# Altium schematic symbol library Schlib_EFM1.SchLib: 109 symbols
Pins are listed as number, name and electrical type; pins without a type are passive.

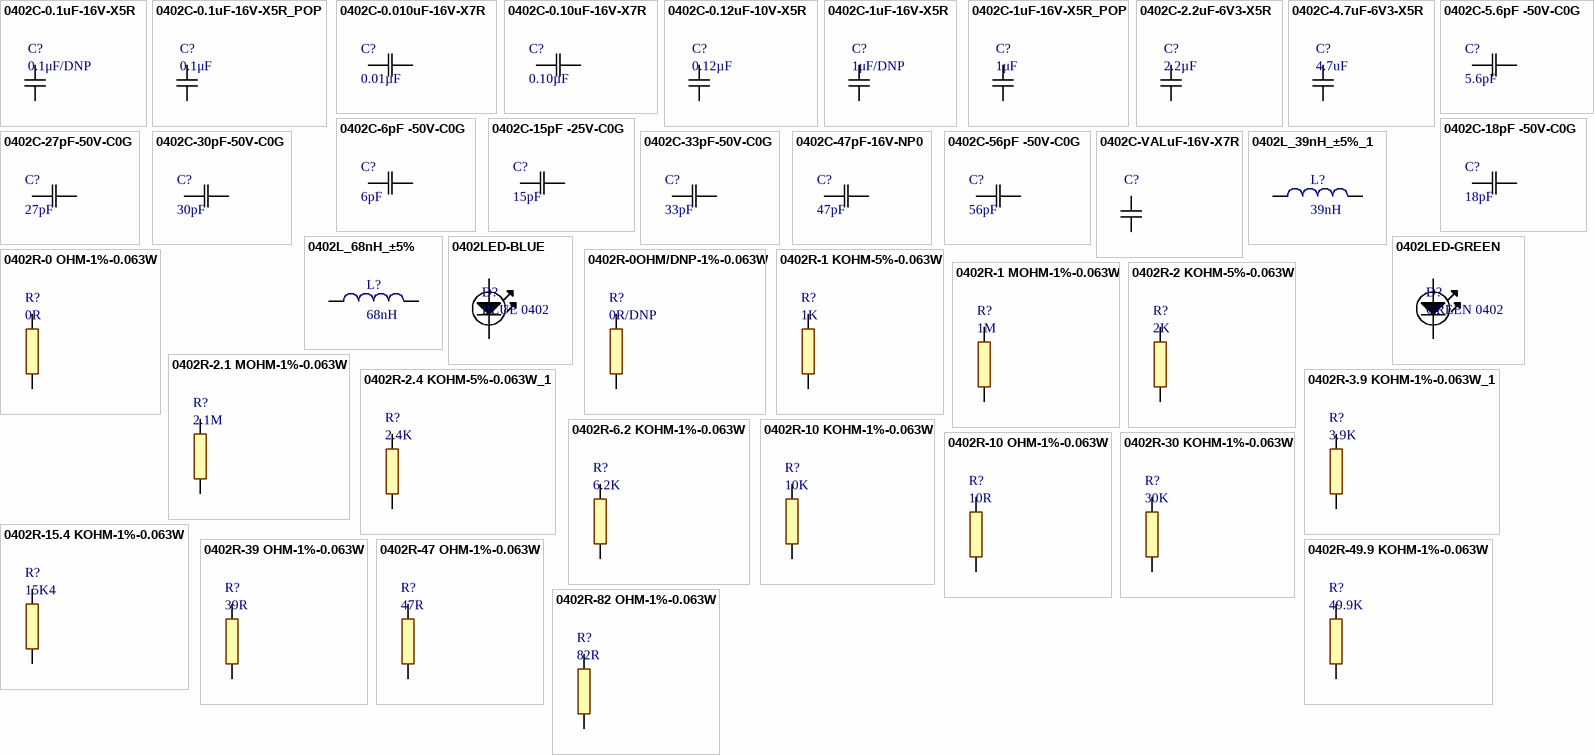
[diagram p0: symbols 0402C-0.1uF-16V-X5R to 0402R-82 OHM-1%-0.063W]

## 0402C-0.1uF-16V-X5R
designator C?, comment 0.1μF/DNP
CAP CER 0.1UF 16V X5R 0402; Manufacturer: Murata Electronics North America; Manufacturer Part Number: GRM155R61C104KA88D; Tolerance: ±10%; Digi-Key Part Number: 490-5415-1-ND; PackageReference: 0402; Capacitance: 0.1μF/DNP; Voltage - Rated: 16V; Temperature Coefficient: X5R; Supplier 1: Digi-Key; Supplier Part Number 1: 490-5415-6-ND
footprint 0402C-GENERIC (Chip Capacitor, 2-Leads, Body 1.00x0.50mm, IPC Medium Density)
pins: 1, 2

## 0402C-0.1uF-16V-X5R_POP
designator C?, comment 0.1μF
CAP CER 0.1UF 16V X5R 0402; Manufacturer: Murata Electronics North America; Manufacturer Part Number: GRM155R61C104KA88D; Tolerance: ±10%; Digi-Key Part Number: 490-5415-1-ND; PackageReference: 0402; Capacitance: 0.1μF; Voltage - Rated: 16V; Temperature Coefficient: X5R; Supplier 1: Digi-Key; Supplier Part Number 1: 490-5415-6-ND
footprint 0402C-GENERIC (Chip Capacitor, 2-Leads, Body 1.00x0.50mm, IPC Medium Density)
pins: 1, 2

## 0402C-0.010uF-16V-X7R
designator C?, comment 0.01µF
0.010µF ±10% 16V Ceramic Capacitor X7R 0402; Manufacturer Part Number: GRM155R71C103KA01D; Manufacturer: Murata Electronics North America; Capacitance: 0.01µF; Digi-Key Part Number: 490-1313-1-ND; PackageReference: 0402; Temperature Coefficient: X7R; Tolerance: ±10%; Voltage - Rated: 16V
footprint G-155
footprint G-155-L
pins: 1, 2

## 0402C-0.10uF-16V-X7R
designator C?, comment 0.10µF
0.10µF ±10% 16V Ceramic Capacitor X7R 0402; Manufacturer Part Number: GRM155R71C104KA88J; Manufacturer: Murata Electronics North America; Capacitance: 0.10µF; Digi-Key Part Number: 490-6328-2-ND; PackageReference: 0402; Temperature Coefficient: X7R; Tolerance: ±10%; Voltage - Rated: 16V
footprint G-155
footprint G-155-L
pins: 1, 2

## 0402C-0.12uF-10V-X5R
designator C?, comment 0.12µF
CAP CER 0.12UF 10V X5R 0402; Manufacturer: Murata Electronics North America; Manufacturer Part Number: GRM155R61A124KE19D; Tolerance: ±10%; Digi-Key Part Number: 490-6299-1-ND; PackageReference: 0402; Capacitance: 0.12μF; Voltage - Rated: 10V; Temperature Coefficient: X5R
footprint 0402C-GENERIC (Chip Capacitor, 2-Leads, Body 1.00x0.50mm, IPC Medium Density)
pins: 1, 2

## 0402C-1uF-16V-X5R
designator C?, comment 1μF/DNP
CAP CER 1uF 16V X5R 0402; Manufacturer: Taiyo Yuden; Manufacturer Part Number: EMK105BJ105KV-F; Tolerance: ±10%; Digi-Key Part Number: 587-2477-1-ND; PackageReference: 0402; Capacitance: 1μF/DNP; Voltage - Rated: 16V; Temperature Coefficient: X5R; Supplier 1: Digi-Key; Supplier Part Number 1: 587-2477-6-ND
footprint 0402C-GENERIC (Chip Capacitor, 2-Leads, Body 1.00x0.50mm, IPC Medium Density)
pins: 1, 2

## 0402C-1uF-16V-X5R_POP
designator C?, comment 1μF
CAP CER 1uF 16V X5R 0402; Manufacturer: Taiyo Yuden; Manufacturer Part Number: EMK105BJ105KV-F; Tolerance: ±10%; Digi-Key Part Number: 587-2477-1-ND; PackageReference: 0402; Capacitance: 1μF; Voltage - Rated: 16V; Temperature Coefficient: X5R; Supplier 1: Digi-Key; Supplier Part Number 1: 587-2477-6-ND
footprint 0402C-GENERIC (Chip Capacitor, 2-Leads, Body 1.00x0.50mm, IPC Medium Density)
pins: 1, 2

## 0402C-2.2uF-6V3-X5R
designator C?, comment 2.2µF
CAP CER 2.2UF 6.3V X5R 0402 LOW ESR; Manufacturer: TDK Corporation; Manufacturer Part Number: C1005X5R0J225K050BC; Tolerance: ±10%; Digi-Key Part Number: 445-6847-2-ND; PackageReference: 0402; Capacitance: 2.2µF; Voltage - Rated: 6.3V; Temperature Coefficient: X5R
footprint 0402C-GENERIC (Chip Capacitor, 2-Leads, Body 1.00x0.50mm, IPC Medium Density)
pins: 1, 2

## 0402C-4.7uF-6V3-X5R
designator C?, comment 4.7uF
CAP CER 4.7uF 6.3V X5R 0402; Manufacturer: Murata Electronics North America; Manufacturer Part Number: GRM155R60J475ME47D; Tolerance: ±20%; Digi-Key Part Number: 490-5915-2-ND; PackageReference: 0402; Capacitance: 4.7uF; Voltage - Rated: 6.3V; Temperature Coefficient: X5R
footprint 0402C-GENERIC (Chip Capacitor, 2-Leads, Body 1.00x0.50mm, IPC Medium Density)
pins: 1, 2

## 0402C-5.6pF -50V-C0G
designator C?, comment 5.6pF
CAP CER 5.6PF 50V NP0 0402; Manufacturer Part Number: GRM1555C1H5R6CA01D; Manufacturer: Murata Electronics North America; Temperature Coefficient: C0G, NP0; Tolerance: ±0.25pF; Capacitance: 5.6pF; Digi-Key Part Number: 490-6250-1-ND; PackageReference: 0402; Voltage - Rated: 50V
footprint G-155
footprint G-155-L
pins: 1, 2

## 0402C-6pF -50V-C0G
designator C?, comment 6pF
CAP CER 6PF 50V NP0 0402; Manufacturer Part Number: GRM1555C1H6R0DA01D; Manufacturer: Murata Electronics North America; Temperature Coefficient: C0G, NP0; Tolerance: ±0.25pF; Capacitance: 6pF; Digi-Key Part Number: 490-5877-2-ND; PackageReference: 0402; Voltage - Rated: 50V
footprint G-155
footprint G-155-L
pins: 1, 2

## 0402C-15pF -25V-C0G
designator C?, comment 15pF
15pF ±5% 50V Ceramic Capacitor C0G, NP0; Manufacturer Part Number: GRM1555C1H150JA01D; Manufacturer: Murata Electronics North America; Capacitance: 15pF; Digi-Key Part Number: 490-5888-2-ND; PackageReference: 0402; Temperature Coefficient: C0G, NP0; Tolerance: ±5%; Voltage - Rated: 50V
footprint G-155
footprint G-155-L
pins: 1, 2

## 0402C-18pF -50V-C0G
designator C?, comment 18pF
CAP CER 18PF 50V NP0 0402; Manufacturer Part Number: GRM1555C1H180FA01D; Manufacturer: Murata Electronics North America; Temperature Coefficient: C0G, NP0; Tolerance: ±1%; Capacitance: 18pF; Digi-Key Part Number: 490-6203-2-ND; PackageReference: 0402; Voltage - Rated: 50V
footprint G-155
footprint G-155-L
pins: 1, 2

## 0402C-27pF-50V-C0G
designator C?, comment 27pF
27pF ±5% 50V Ceramic Capacitor C0G, NP0 0402; Manufacturer Part Number: GRM1555C1H270JA01D; Manufacturer: Murata Electronics North America; Capacitance: 27pF; Digi-Key Part Number: 490-5869-2-ND; PackageReference: 0402; Temperature Coefficient: C0G, NP0; Tolerance: ±5%; Voltage - Rated: 50V
footprint G-155
footprint G-155-L
pins: 1, 2

## 0402C-30pF-50V-C0G
designator C?, comment 30pF
CAP CER 30PF 50V NP0 0402; Manufacturer Part Number: GRM1555C1H300JA01D; Manufacturer: Murata Electronics North America; Temperature Coefficient: C0G, NP0; Tolerance: ±1%; Capacitance: 30pF; Digi-Key Part Number: 490-5935-1-ND; PackageReference: 0402; Voltage - Rated: 50V
footprint G-155
footprint G-155-L
pins: 1, 2

## 0402C-33pF-50V-C0G
designator C?, comment 33pF
33pF ±5% 50V Ceramic Capacitor C0G, NP0 0402; Manufacturer Part Number: GRM1555C1H330JA01D; Manufacturer: Murata Electronics North America; Capacitance: 33pF; Digi-Key Part Number: 490-5936-2-ND; PackageReference: 0402; Temperature Coefficient: C0G, NP0; Tolerance: ±5%; Voltage - Rated: 50V
footprint G-155
footprint G-155-L
pins: 1, 2

## 0402C-47pF-16V-NP0
designator C?, comment 47pF
47pF ±5% 50V Ceramic Capacitor C0G, NP0 0402; Manufacturer Part Number: GRM1555C1H470JA01D; Manufacturer: Murata Electronics North America; Capacitance: 47pF; Digi-Key Part Number: 490-5942-2-ND; PackageReference: 0402; Temperature Coefficient: NP0; Tolerance: ±5%; Voltage - Rated: 50V
footprint G-155
footprint G-155-L
pins: 1, 2

## 0402C-56pF -50V-C0G
designator C?, comment 56pF
56pF ±5% 50V Ceramic Capacitor C0G, NP0 0402; Manufacturer Part Number: GRM1555C1H560JA01D; Manufacturer: Murata Electronics North America; Capacitance: 56pF; Digi-Key Part Number: 490-1288-1-ND; PackageReference: 0402; Temperature Coefficient: C0G, NP0; Tolerance: ±5%; Voltage - Rated: 50V
footprint G-155
footprint G-155-L
pins: 1, 2

## 0402C-VALuF-16V-X7R
designator C?
CAP, CERM, VAL μF, 16 V, ±0%, X7R, 0402; Tolerance: ±; Voltage - Rated: 16V; PackageReference: 0402; Capacitance: VAL
footprint 0402C-GENERIC (Chip Capacitor, 2-Leads, Body 1.00x0.50mm, IPC Medium Density)
pins: 1, 2

## 0402L_39nH_±5%_1
designator L?, comment 39nH
39nH Unshielded Multilayer Inductor 200mA 1.06 Ohm; Manufacturer: Murata Electronics North America; Manufacturer Part Number: LQG15HN39NJ02D; Number of Lines: 1; Tolerance: ±5%; Digi-Key Part Number: 490-1092-2-ND; Current Rating (Max): 200mA; ComponentLink1Description: Datasheet; ComponentLink1URL: http://search.murata.co.jp/Ceramy/image/img/PDF/ENG/L0075S0083LQG15HN.pdf; PackageReference: 0402 (1005 Metric); Inductance: 39nH
footprint 0402L_High Speed (SMD EMI Suppression Ferrite  Bead, body 1.0mmx0.5mm)
pins: 1, 2

## 0402L_68nH_±5%
designator L?, comment 68nH
68nH Unshielded Multilayer Inductor 180mA 920 mOhm; Manufacturer: Murata Electronics North America; Manufacturer Part Number: LQG15HS68NJ02D; Filter Type: Signal Line; Number of Lines: 1; Tolerance: ±5%; Digi-Key Part Number: 490-2633-1-ND; Current Rating (Max): 180mA; ComponentLink1Description: Datasheet; ComponentLink1URL: http://search.murata.co.jp/Ceramy/image/img/PDF/ENG/L0075S0083LQG15HS.pdf; PackageReference: 0402 (1005 Metric); Inductance: 68nH
footprint 0402L_High Speed (SMD EMI Suppression Ferrite  Bead, body 1.0mmx0.5mm)
pins: 1, 2

## 0402LED-BLUE
designator D?, comment BLUE 0402
LED BLUE CLEAR 0402 SMD; Manufacturer Part Number: SMLP12BC7TT86; Manufacturer: Rohm Semiconductor; Millicandela Rating: 17mcd; Voltage - Forward (Vf): 2.9V; Current: 5mA; Digi-Key Part Number: 511-1615-1-ND; Color: Blue; PackageReference: 0402; HelpURL: C:\Projects\Power_puck\DataSheets\sml-p11_p-eco.pdf
footprint LED0402
pins: A, K

## 0402LED-GREEN
designator D?, comment GREEN 0402
LED GREEN CLEAR 0402 SMD; Manufacturer Part Number: SML-P11MTT86; Manufacturer: Rohm Semiconductor; Millicandela Rating: 2.1mcd; Voltage - Forward (Vf): 1.9V; Current: 1mA; Digi-Key Part Number: 511-1652-1-ND; Color: Green; PackageReference: 0402; Supplier 1: Farnell; Supplier 2: Farnell; Supplier 3: Digi-Key; Supplier Part Number 1: 2507544RL; Supplier Part Number 2: 1973103RL; Supplier Part Number 3: 511-1652-1-ND; HelpURL: C:\Projects\Power_puck\DataSheets\sml-p11_p-eco.pdf
footprint LED0402
pins: A, K

## 0402R-0 OHM-1%-0.063W
designator R?, comment 0R
RES SMD 0 OHM 1% 1/16W 0402; Manufacturer: Rohm Semiconductor; Manufacturer Part Number: MCR01MZPJ000; Power: 0.063W; GENERIC_OK: YES; Digi-Key Part Number: RHM0.0JTR-ND; Resistance (Ohms): 0R; PackageReference: 0402
footprint 0402R-GRENRIC (0402 RES)
pins: 1, 2

## 0402R-0OHM/DNP-1%-0.063W
designator R?, comment 0R/DNP
DNP  / NU; Power: 0.063W; GENERIC_OK: YES; Resistance (Ohms): DNP; PackageReference: 0402
footprint 0402R-GRENRIC (0402 RES)
pins: 1, 2

## 0402R-1 KOHM-5%-0.063W
designator R?, comment 1K
RES SMD 1 KOHM 5% 1/16W 0402; Power: 0.063W; GENERIC_OK: YES; Resistance (Ohms): 1K; PackageReference: 0402
footprint 0402R-GRENRIC (0402 RES)
pins: 1, 2

## 0402R-1 MOHM-1%-0.063W
designator R?, comment 1M
RES SMD 1 MOHM 1% 1/16W 0402; Power: 0.063W; GENERIC_OK: YES; Resistance (Ohms): 1M; Tolerance: 1%; PackageReference: 0402
footprint 0402R-GRENRIC (0402 RES)
pins: 1, 2

## 0402R-2 KOHM-5%-0.063W
designator R?, comment 2K
RES SMD 2 KOHM 5% 1/16W 0402; Power: 0.063W; GENERIC_OK: YES; Resistance (Ohms): 2K; Tolerance: 5%; PackageReference: 0402
footprint 0402R-GRENRIC (0402 RES)
pins: 1, 2

## 0402R-2.1 MOHM-1%-0.063W
designator R?, comment 2.1M
RES SMD 2.1M OHM 1% 1/16W 0402; Manufacturer: Vishay Dale; Manufacturer Part Number: CRCW04022M10FKED; Power: 0.063W; GENERIC_OK: YES; Digi-Key Part Number: 541-2.10MLCT-ND; Resistance (Ohms): 2.1M; Tolerance: 1%; PackageReference: 0402
footprint 0402R-GRENRIC (0402 RES)
pins: 1, 2

## 0402R-2.4 KOHM-5%-0.063W_1
designator R?, comment 2.4K
RES SMD 2.4 KOHM 5% 1/16W 0402; Power: 0.063W; GENERIC_OK: YES; Resistance (Ohms): 2.4K; PackageReference: 0402
footprint 0402R-GRENRIC (0402 RES)
pins: 1, 2

## 0402R-3.9 KOHM-1%-0.063W_1
designator R?, comment 3.9K
RES SMD 3.9 KOHM 1% 1/16W 0402; Manufacturer: Yageo; Manufacturer Part Number: RC0402FR-073K9L; Power: 0.063W; GENERIC_OK: YES; Digi-Key Part Number: 311-3.90KLRTR-ND; Resistance (Ohms): 3.9K; Tolerance: 1%; PackageReference: 0402
footprint 0402R-GRENRIC (0402 RES)
pins: 1, 2

## 0402R-6.2 KOHM-1%-0.063W
designator R?, comment 6.2K
RES SMD 6.2 KOHM 1% 1/16W 0402; Power: 0.063W; GENERIC_OK: YES; Resistance (Ohms): 6.2K; Tolerance: 1%; PackageReference: 0402
footprint 0402R-GRENRIC (0402 RES)
pins: 1, 2

## 0402R-10 KOHM-1%-0.063W
designator R?, comment 10K
RES SMD 10 KOHM 1% 1/16W 0402; Power: 0.063W; GENERIC_OK: YES; Resistance (Ohms): 10K; PackageReference: 0402
footprint 0402R-GRENRIC (0402 RES)
pins: 1, 2

## 0402R-10 OHM-1%-0.063W
designator R?, comment 10R
RES SMD 10 OHM 1% 1/16W 0402; Resistance (Ohms): 10; Power: 0.063W; GENERIC_OK: YES; Tolerance: 1%; PackageReference: 0402
footprint 0402R-GRENRIC (0402 RES)
pins: 1, 2

## 0402R-15.4 KOHM-1%-0.063W
designator R?, comment 15K4
RES SMD 15.4 KOHM 1% 1/16W 0402; Power: 0.063W; GENERIC_OK: YES; Resistance (Ohms): 15K4; Tolerance: 1%; PackageReference: 0402
footprint 0402R-GRENRIC (0402 RES)
pins: 1, 2

## 0402R-30 KOHM-1%-0.063W
designator R?, comment 30K
RES SMD 30 KOHM 1% 1/10W 0402; Manufacturer: Yageo; Manufacturer Part Number: RC0402FR-0730KL; Power: 0.063W; GENERIC_OK: YES; Digi-Key Part Number: 311-30.0KLRTR-ND; Resistance (Ohms): 30K; Tolerance: 1%; PackageReference: 0402
footprint 0402R-GRENRIC (0402 RES)
pins: 1, 2

## 0402R-39 OHM-1%-0.063W
designator R?, comment 39R
RES SMD 39 OHM 1% 1/16W 0402; Power: 0.063W; GENERIC_OK: YES; Resistance (Ohms): 39R; Tolerance: 1%; PackageReference: 0402
footprint 0402R-GRENRIC (0402 RES)
pins: 1, 2

## 0402R-47 OHM-1%-0.063W
designator R?, comment 47R
RES SMD 47 OHM 1% 1/16W 0402; Power: 0.063W; GENERIC_OK: YES; Resistance (Ohms): 47R; Tolerance: 1%; PackageReference: 0402
footprint 0402R-GRENRIC (0402 RES)
pins: 1, 2

## 0402R-49.9 KOHM-1%-0.063W
designator R?, comment 49.9K
RES SMD 49.9 KOHM 1% 1/16W 0402; Power: 0.063W; GENERIC_OK: YES; Resistance (Ohms): 49.9 K; PackageReference: 0402
footprint 0402R-GRENRIC (0402 RES)
pins: 1, 2

## 0402R-82 OHM-1%-0.063W
designator R?, comment 82R
RES SMD 82 OHM 1% 1/16W 0402; Power: 0.063W; GENERIC_OK: YES; Resistance (Ohms): 82R; Tolerance: 1%; PackageReference: 0402
footprint 0402R-GRENRIC (0402 RES)
pins: 1, 2

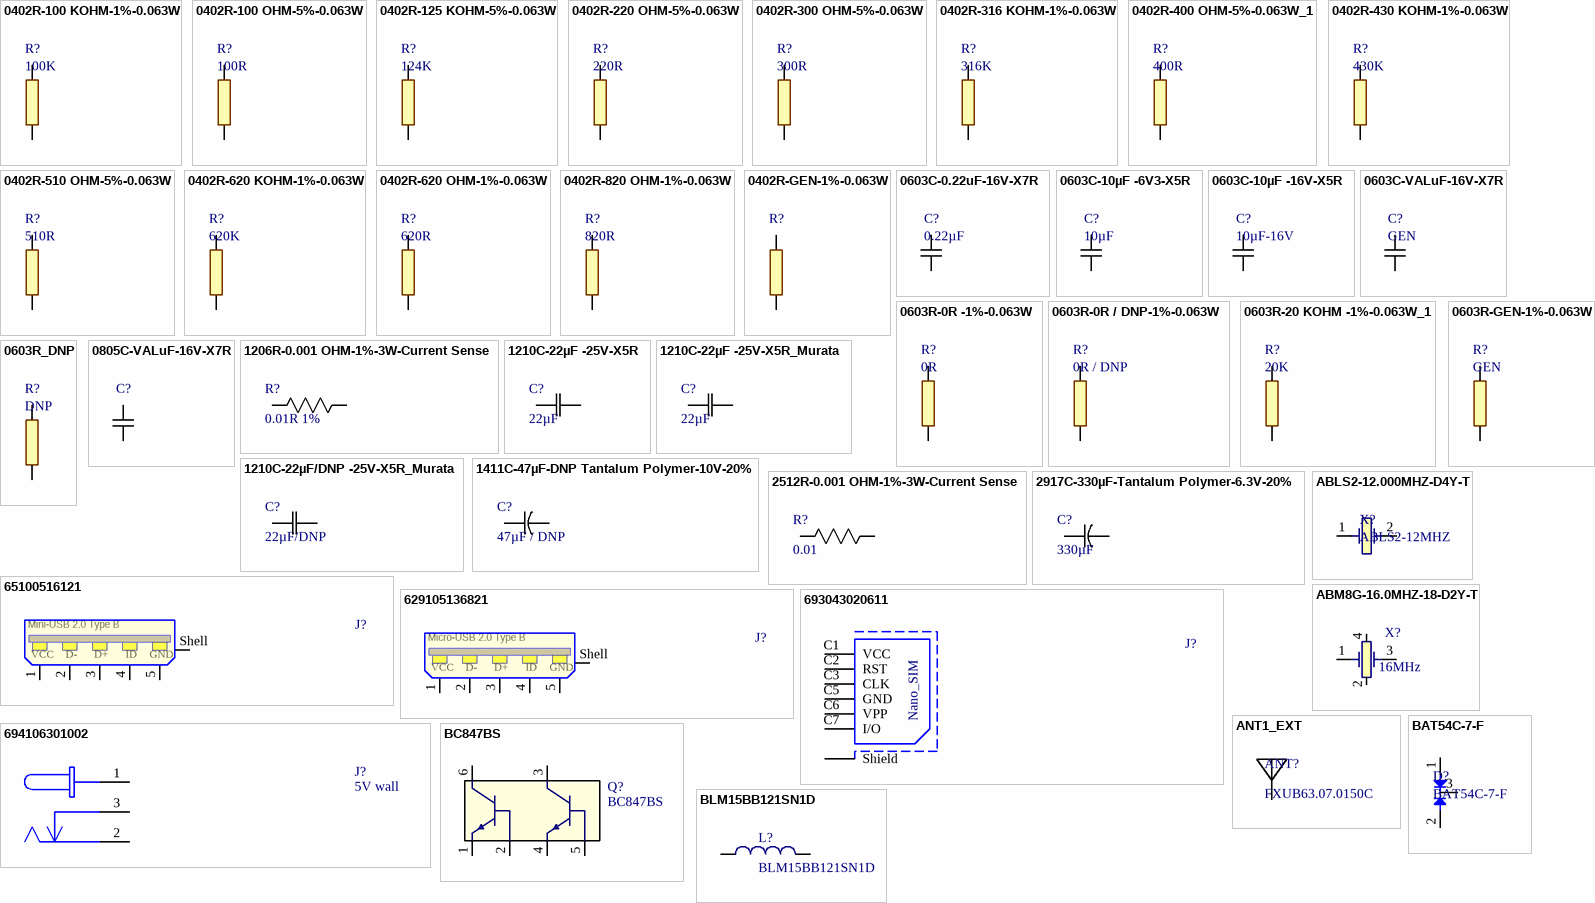
[diagram p1: symbols 0402R-100 KOHM-1%-0.063W to BLM15BB121SN1D]

## 0402R-100 KOHM-1%-0.063W
designator R?, comment 100K
RES SMD 100 KOHM 1% 1/16W 0402; Power: 0.063W; GENERIC_OK: YES; Resistance (Ohms): 100K; Tolerance: 1%; PackageReference: 0402
footprint 0402R-GRENRIC (0402 RES)
pins: 1, 2

## 0402R-100 OHM-5%-0.063W
designator R?, comment 100R
RES SMD 100 OHM 5% 1/16W 0402; Power: 0.063W; GENERIC_OK: YES; Resistance (Ohms): 100R; PackageReference: 0402
footprint 0402R-GRENRIC (0402 RES)
pins: 1, 2

## 0402R-125 KOHM-5%-0.063W
designator R?, comment 124K
RES SMD 124 KOHM 5% 1/16W 0402; Manufacturer Part Number: RC0402FR-07124KL; Power: 0.063W; GENERIC_OK: YES; Resistance (Ohms): 124K; Tolerance: 5%; PackageReference: 0402
footprint 0402R-GRENRIC (0402 RES)
pins: 1, 2

## 0402R-220 OHM-5%-0.063W
designator R?, comment 220R
RES SMD 220 OHM 1% 1/16W 0402; Power: 0.063W; GENERIC_OK: YES; Resistance (Ohms): 220R; Tolerance: 1%; PackageReference: 0402
footprint 0402R-GRENRIC (0402 RES)
pins: 1, 2

## 0402R-300 OHM-5%-0.063W
designator R?, comment 300R
RES SMD 300 OHM 5% 1/16W 0402; Power: 0.063W; GENERIC_OK: YES; Resistance (Ohms): 300R; PackageReference: 0402
footprint 0402R-GRENRIC (0402 RES)
pins: 1, 2

## 0402R-316 KOHM-1%-0.063W
designator R?, comment 316K
RES SMD 316 KOHM 1% 1/16W 0402; Manufacturer: Yageo; Manufacturer Part Number: RC0402FR-07316KL; Power: 0.063W; GENERIC_OK: YES; Digi-Key Part Number: YAG3113TR-ND; Resistance (Ohms): 316K; Tolerance: 1%; PackageReference: 0402
footprint 0402R-GRENRIC (0402 RES)
pins: 1, 2

## 0402R-400 OHM-5%-0.063W_1
designator R?, comment 400R
RES SMD 400 OHM 5% 1/16W 0402; Power: 0.063W; GENERIC_OK: YES; Resistance (Ohms): 400R; PackageReference: 0402
footprint 0402R-GRENRIC (0402 RES)
pins: 1, 2

## 0402R-430 KOHM-1%-0.063W
designator R?, comment 430K
RES SMD 430K OHM 1% 1/16W 0402; Manufacturer: Yageo; Manufacturer Part Number: RC0402FR-07430KL; Power: 0.063W; GENERIC_OK: YES; Digi-Key Part Number: 311-430KLRCT-ND; Resistance (Ohms): 430K; Tolerance: 1%; PackageReference: 0402
footprint 0402R-GRENRIC (0402 RES)
pins: 1, 2

## 0402R-510 OHM-5%-0.063W
designator R?, comment 510R
RES SMD 510 OHM 5% 1/16W 0402; Power: 0.063W; GENERIC_OK: YES; Resistance (Ohms): 510R; PackageReference: 0402
footprint 0402R-GRENRIC (0402 RES)
pins: 1, 2

## 0402R-620 KOHM-1%-0.063W
designator R?, comment 620K
RES SMD 620K Ohm ±1% 0.063W, 1/16W Chip Resistor 0402; Manufacturer: Yageo; Manufacturer Part Number: RC0402FR-07620KL; GENERIC_OK: YES; Digi-Key Part Number: 311-620KLRTR-ND; Resistance (Ohms): 620K; Tolerance: 1%; Power: 0.063W; PackageReference: 0402
footprint 0402R-GRENRIC (0402 RES)
pins: 1, 2

## 0402R-620 OHM-1%-0.063W
designator R?, comment 620R
RES SMD 620OHM 1% 1/16W 0402; Power: 0.063W; GENERIC_OK: YES; Resistance (Ohms): 620R; Tolerance: 1%; PackageReference: 0402
footprint 0402R-GRENRIC (0402 RES)
pins: 1, 2

## 0402R-820 OHM-1%-0.063W
designator R?, comment 820R
RES SMD 820OHM 1% 1/16W 0402; Power: 0.063W; GENERIC_OK: YES; Resistance (Ohms): 820R; Tolerance: 1%; PackageReference: 0402
footprint 0402R-GRENRIC (0402 RES)
pins: 1, 2

## 0402R-GEN-1%-0.063W
designator R?
RES SMD GEN OHM 1% 1/10W 0402; Power: 0.063W; GENERIC_OK: YES; PackageReference: 0402
footprint 0402R-GRENRIC (0402 RES)
pins: 1, 2

## 0603C-0.22uF-16V-X7R
designator C?, comment 0.22µF
CAP CER 0.22UF 16V X7R 0603; Manufacturer: Kemet; Manufacturer Part Number: C0603C224J4RACTU; Tolerance: ±5%; Digi-Key Part Number: 399-7337-1-ND; PackageReference: 0603; Capacitance: 0.22µF; Voltage - Rated: 16V; Temperature Coefficient: X7R; Supplier 1: Digi-Key; Supplier 2: Mouser; Supplier Part Number 1: 399-7337-1-ND; Supplier Part Number 2: 80-C0603C224J4RAC
footprint 0603C-GENERIC
pins: 1, 2

## 0603C-10µF -6V3-X5R
designator C?, comment 10µF
10µF ±20% 6.3V Ceramic Capacitor X5R 0603; Manufacturer: Taiyo Yuden; Manufacturer Part Number: JMK107BJ106MA-T; Digi-Key Part Number: 587-1256-2-ND; Package Reference: 0603; Capacitance: 10µF; Tolerance: ±20%; Voltage - Rated: 6.3V; Temperature Coefficient: X5R
footprint 0603C-GENERIC
pins: 1, 2

## 0603C-10µF -16V-X5R
designator C?, comment 10µF-16V
10µF ±20% 16V Ceramic Capacitor X5R 0603; Manufacturer: Murata Electronics; Manufacturer Part Number: GRM188R61C106MA73D; Digi-Key Part Number: 490-7201-1-ND; Package Reference: 0603; Capacitance: 10µF; Tolerance: ±20%; Voltage - Rated: 16V; Temperature Coefficient: X5R
footprint 0603C-GENERIC
pins: 1, 2

## 0603C-VALuF-16V-X7R
designator C?, comment GEN
CAP, CERM, VAL μF, 16 V, ±10%, X7R, 0402; Voltage - Rated: 16V; PackageReference: 0603; Capacitance: GEN; Tolerance: ±10%
footprint 0603C-GENERIC
pins: 1, 2

## 0603R-0R -1%-0.063W
designator R?, comment 0R
RES SMD 0 OHM 1% 1/10W 0402; Manufacturer: Vishay Dale; Manufacturer Part Number: CRCW06030000Z0EAHP; Power: 0.063W; GENERIC_OK: YES; Digi-Key Part Number: 541-0.0SBTR-ND; Resistance (Ohms): 0R; PackageReference: 0603
footprint 0603R-GENRIC (0603 RES)
pins: 1, 2

## 0603R-0R / DNP-1%-0.063W
designator R?, comment 0R / DNP
RES SMD 0 OHM 1% 1/10W 0402; Manufacturer: Vishay Dale; Manufacturer Part Number: CRCW06030000Z0EAHP; Power: 0.063W; GENERIC_OK: YES; Digi-Key Part Number: 541-0.0SBTR-ND; Resistance (Ohms): 0R / DNP; PackageReference: 0603
footprint 0603R-GENRIC (0603 RES)
pins: 1, 2

## 0603R-20 KOHM -1%-0.063W_1
designator R?, comment 20K
RES SMD 20 KOHM 1% 1/10W 0402; Manufacturer: Yageo; Manufacturer Part Number: RC0603FR-0720KL; Power: 0.063W; GENERIC_OK: YES; Digi-Key Part Number: 311-20.0KHRCT-ND; Resistance (Ohms): 20K; Tolerance: 1%; PackageReference: 0603
footprint 0603R-GENRIC (0603 RES)
pins: 1, 2

## 0603R-GEN-1%-0.063W
designator R?, comment GEN
RES SMD GEN OHM 1% 1/10W 0402; Power: 0.063W; GENERIC_OK: YES; Resistance (Ohms): GEN; PackageReference: 0603
footprint 0603R-GENRIC (0603 RES)
pins: 1, 2

## 0603R_DNP
designator R?, comment DNP
RES 0603 DNP; GENERIC_OK: YES; PackageReference: 0603
footprint 0603R-GENRIC (0603 RES)
pins: 1, 2

## 0805C-VALuF-16V-X7R
designator C?
CAP, CERM, VAL μF, 16 V, ±10%, X7R, 0402; Tolerance: ±; PackageReference: 0805
footprint 0805C-GENERIC
pins: 1, 2

## 1206R-0.001 OHM-1%-3W-Current Sense
designator R?, comment 0.01R 1%
0.01 Ohm ±1% 1W Chip Resistor 1206; Manufacturer Part Number: RUK3216FR010CS; Manufacturer: Samsung Electro-Mechanics America, Inc.; Resistance (Ohms): 0.01; Digi-Key Part Number: 1276-6165-2-ND; Type: Current Sense; Tolerance: ±1%; Power (Watts): 1W; PackageReference: 1206
footprint 1206R_Wide-0.8mm (0.126" L x 0.063" W x 0.031"H (3.20mm x 1.60mm x 0.80mm))
pins: 1, 2

## 1210C-22µF -25V-X5R
designator C?, comment 22µF
22µF ±20% 25V Ceramic Capacitor X5R 1210; Manufacturer Part Number: 885012109014; Manufacturer: Wurth Electronics Inc; GENERIC_OK: YES; Capacitance: 22µF; Digi-Key Part Number: 732-7385-1-ND; PackageReference: 1210; Temperature Coefficient: X5R; Tolerance: ±20%; Voltage - Rated: 25V; ClassName: 3D_EXPORT
footprint WCAP-CSGP_1210, 3.2x2.5x2.5 (WCAP-CSGP Ceramic Capacitors, size 1210, body 3.2x2.5x2.5)
pins: 1, 2

## 1210C-22µF -25V-X5R_Murata
designator C?, comment 22µF
22µF ±10% 25V Ceramic Capacitor X5R 1210; Manufacturer Part Number: GRM32ER61E226KE15K; Manufacturer: Murata Electronics North America; GENERIC_OK: YES; Capacitance: 22µF; Digi-Key Part Number: 490-6540-1-ND; PackageReference: 1210; Temperature Coefficient: X5R; Tolerance: ±10%; Voltage - Rated: 25V; ClassName: 3D_EXPORT
footprint 1210C
pins: 1, 2

## 1210C-22µF/DNP -25V-X5R_Murata
designator C?, comment 22µF/DNP
22µF ±10% 25V Ceramic Capacitor X5R 1210; Manufacturer Part Number: GRM32ER61E226KE15K; Manufacturer: Murata Electronics North America; GENERIC_OK: YES; Capacitance: 22µF/DNP; Digi-Key Part Number: 490-6540-1-ND; PackageReference: 1210; Temperature Coefficient: X5R; Tolerance: ±10%; Voltage - Rated: 25V; ClassName: 3D_EXPORT
footprint 1210C
pins: 1, 2

## 1411C-47µF-DNP Tantalum Polymer-10V-20%
designator C?, comment 47µF / DNP
DNP / NU; Manufacturer: AVX Corporation; Manufacturer Part Number: F931A476MBA; Voltage - Rated: 10V; Tolerance: ±20%; Digi-Key Part Number: 478-8226-2-ND; ComponentLink1URL: http://datasheets.avx.com/F93.pdf; Capacitance: 47µF; Series: F93; PackageReference: 1411 (3528 Metric); Size/Dimension: 3.50mm x 2.80mm; Height_-_Seated_(Max): 2.30mm; ComponentLink1Description: Datasheet; ClassName: 3D_EXPORT
footprint 1411C-47uF-TANT (CAP TANT 47UF 10V 20% 1411)
pins: 1, 2

## 2512R-0.001 OHM-1%-3W-Current Sense
designator R?, comment 0.01
0.01 Ohm ±1% 3W Chip Resistor 2512; Manufacturer Part Number: CRA2512-FZ-R010ELF; Manufacturer: Bourns Inc.; Digi-Key Part Number: CRA2512-FZ-R010ELFTR-ND; Resistance (Ohms): 0.01; Type: Current Sense; Tolerance: ±1%; Power (Watts): 3W
footprint 2512R_Wide
pins: 1, 2

## 2917C-330µF-Tantalum Polymer-6.3V-20%
designator C?, comment 330µF
330µF ±20% Molded Tantalum Polymer Capacitor 6.3V; Manufacturer: Kemet; Manufacturer Part Number: T520D337M006ATE045; Maximum_Temperature: -55Â°C ~ 105Â°C; ESR_(Equivalent_Series_Resistance): 45.0 mOhm; Digi-Key Part Number: 399-4055-2-ND; ComponentLink1URL: http://www.kemet.com/datasheets&amp;T520D337M006ATE045; Capacitance: 330µF; Voltage - Rated: 6.3V; Tolerance: ±20%; Series: T520; PackageReference: 2917 (7343 Metric); Features: Polymer; Type: Molded; Size/Dimension: 0.287" L x 0.169" W (7.30mm x 4.30mm); Height_-_Seated_(Max): 0.122" (3.10mm); ComponentLink1Description: Datasheet; ClassName: 3D_EXPORT
footprint PCAP7343-31_Keme
footprint PCAP7343-31_Ke00
footprint PCAP7343-31_Ke01
pins: 1, 2

## 65100516121
designator J?
WR-COM Mini USB 2.0 Type B SMT Horizontal 5 Contacts; Manufacturer: Wurth Elektronik; Manufacturer Part Number: 65100516121; ComponentLink1Description: Manufacturer; ComponentLink1URL: http://www.we-online.de; ComponentLink2Description: Datasheet; ComponentLink2URL: http://katalog.we-online.de/em/datasheet/65100516121.pdf
footprint 65100516121 (5 pins)
pins: 1 VCC, 2 D-, 3 D+, 4 ID, 5 GND, Shell
text: Mini-USB 2.0 Type B

## 629105136821
designator J?, comment USB_MINI  (value not drawn)
WR-COM Micro USB 2.0 SMT Type B Horizontal 5 Contacts; Manufacturer: Wurth Elektronik; Manufacturer Part Number: 629105136821; ComponentLink1Description: Manufacturer; ComponentLink1URL: http://www.we-online.de; ComponentLink2Description: Datasheet; ComponentLink2URL: http://katalog.we-online.de/em/datasheet/629105136821.pdf
footprint 629105136821 (5 pins)
pins: 1 VCC, 2 D-, 3 D+, 4 ID, 5 GND, Shell
text: Micro-USB 2.0 Type B

## 693043020611
designator J?
WR-CRD Nano SIM Card Connector, Push & Pull; Manufacturer: Wurth Elektronik; Manufacturer Part Number: 693043020611; ComponentLink1Description: Manufacturer; ComponentLink1URL: http://www.we-online.de; ComponentLink2Description: Datasheet; ComponentLink2URL: http://katalog.we-online.de/em/datasheet/693043020611.pdf; ClassName: 3D_EXPORT
footprint 693043020611
pins: C1 VCC, C2 RST, C3 CLK, C5 GND, C6 VPP, C7 I/O, Shield
text: Nano_SIM

## 694106301002
designator J?, comment 5V wall
WR-DC DC Power Jack Right Angled(6.4); PartNumber: 694106301002; Published: June 2016; Publisher: Wurth Elektronik; ComponentLink1Description: Manufacturer; ComponentLink1URL: http://www.we-online.de; ComponentLink2Description: Datasheet; ComponentLink2URL: http://katalog.we-online.de/em/datasheet/6941xx301002.pdf
footprint 694106301002 (WR-DC_DC Power Jack_Right Angled_THT Center Pin ?2.0_Plug ID ?2.05_Plug OD ?5.5)
pins: 1, 2, 3

## ABLS2-12.000MHZ-D4Y-T
designator X?, comment ABLS2-12MHZ
12MHz ±30ppm Crystal 18pF 50 Ohm -40°C ~ 85°C Surface Mount HC49/US; Manufacturer: Abracon LLC; Manufacturer Part Number: ABLS2-12.000MHZ-D4Y-T; Digi-Key Part Number: 535-9869-1-ND; Frequency: 12MHz; Load Capacitance: 18pF; PackageReference: HC49/US; ComponentLink1Description: Datasheet; ComponentLink1URL: http://www.abracon.com/Resonators/ABLS2.pdf; Value: ABLS2-12MHZ
footprint Xtal-ABLS2-12.000MHZ (HC49/US)
pins: 1, 2

## ABM8G-16.0MHZ-18-D2Y-T
designator X?, comment 16MHz
16MHz ±20ppm Crystal 18pF 80 Ohm; Manufacturer: Abracon LLC; Manufacturer Part Number: ABM8G-16.000MHZ-18-D2Y-T; Value: ABM8G-16.000MHZ-18-D2Y-T; Digi-Key Part Number: 535-10267-2-ND; Frequency: 16MHz; Load Capacitance: 18pF; PackageReference: 2-SMD, No Lead (DFN, LCC); ComponentLink1Description: Datasheet; ComponentLink1URL: http://www.abracon.com/Resonators/ABM8G.pdf; Frequency Tolerance: ±20ppm
footprint Xtal-ABM8G-16.00MHZ (CRYSTAL 16.0000MHZ 18PF SMD)
pins: 1, 2, 3, 4

## ANT1_EXT
designator ANT?, comment FXUB63.07.0150C  (mechanical)
850MHz, 1.575GHz, 1.8GHz, 2.1GHz, 2.4GHz, 2.6GHz GPS, LTE, Wi-Fi Flat Patch RF Antenna 698MHz ~ 3GHz 1dBi, 2.5dBi, 3.5dBi, 5dBi, 5dBi, 4.5dBi Cable (150mm) - U.FL Adhesive; Manufacturer: Taoglas Limited; Digi-Key Part Number: 931-1329-ND; Manufacturer Part Number: FXUB63.07.0150C; ComponentLink1Description: Datasheet; ComponentLink1URL: http://taoglas.com/images/product_images/original_images/FXUB63.07.0150C.pdf; Frequency (Center/Band): 850MHz, 1.575GHz, 1.8GHz, 2.1GHz, 2.4GHz, 2.6GHz; Frequency Range: 698MHz ~ 3GHz

## BAT54C-7-F
designator D?
SURFACE MOUNT SCHOTTKY BARRIER DIODE; Supplier 1: Mouser; Supplier 2: Digi-Key; Supplier Part Number 1: 621-BAT54C-F; Supplier Part Number 2: BAT54C-FDIDKR-ND
footprint SOT23-3-BAT54C (SOT23, 3-Leads, Body 2.90x2.40mm, Pitch 0.95mm, IPC Medium Density)
pins: 1, 2 "1", 3 "1"

## BC847BS
designator Q?
Bipolar (BJT) Transistor Array 2 NPN (Dual) 45V 100mA; Manufacturer: NXP; Manufacturer Part Number: BC847BS; Value: Value; Type: Type; RefDes: RefDes; Digi-Key Part Number: 568-11601-2-ND; PackageReference: SOT-363
footprint SOT363-L
pins: 1 EMITTER TR1, 2 BASE TR1, 3 COLLECTOR TR2, 4 EMITTER TR2, 5 BASE TR2, 6 COLLECTOR TR1

## BLM15BB121SN1D
designator L?
FERRITE BEAD 120 OHM 0402 1LN; Manufacturer: Murata Electronics North America; Filter Type: Signal Line; Number of Lines: 1; Impedance @ Frequency: 120 Ohm @ 100MHz; Current Rating (Max): 300mA; Digi-Key Part Number: 490-1008-1-ND; Manufacturer Part Number: BLM15BB121SN1D; ComponentLink1Description: Datasheet; ComponentLink1URL: http://search.murata.co.jp/Ceramy/image/img/PDF/ENG/L0110S0100BLM15B.pdf; PackageReference: 0402 (1005 Metric)
footprint 0402L_High Speed (SMD EMI Suppression Ferrite  Bead, body 1.0mmx0.5mm)
pins: 1, 2

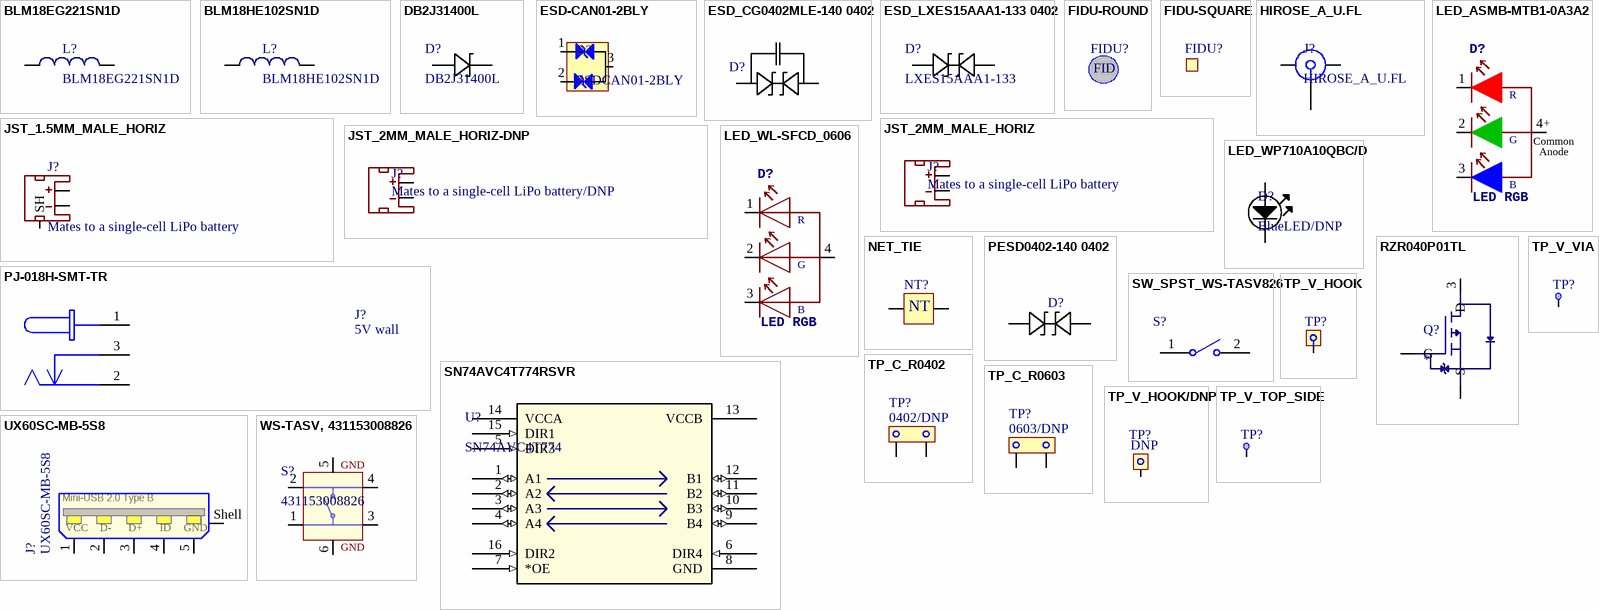
[diagram p2: symbols BLM18EG221SN1D to WS-TASV, 431153008826]

## BLM18EG221SN1D
designator L?
FERRITE BEAD 1 KOHM 0603 1LN; Manufacturer: Murata Electronics North America; Filter Type: EMIFIL, BLM18; Number of Lines: 1; Impedance @ Frequency: 220 Ohm @ 100MHz; Current Rating (Max): 2A; Digi-Key Part Number: 490-3992-1-ND; Manufacturer Part Number: BLM18EG221SN1D; ComponentLink1Description: Datasheet; ComponentLink1URL: http://search.murata.co.jp/Ceramy/image/img/PDF/ENG/L0110S0101BLM18E.pdf; PackageReference: 0603 (1608 Metric)
footprint IND_BLM18_0603
footprint IND_BLM18_0603-L
footprint 0603L_High Current (SMD EMI Suppression Ferrite  Bead, body 1.6mmx0.8mm)
pins: 1, 2

## BLM18HE102SN1D
designator L?
FERRITE BEAD 1 KOHM 0603 1LN; Manufacturer: Murata Electronics North America; Filter Type: Power Line; Number of Lines: 1; Impedance @ Frequency: 1 kOhm @ 100MHz; Current Rating (Max): 600mA; Digi-Key Part Number: 490-5215-1-ND; Manufacturer Part Number: BLM18HE102SN1D; ComponentLink1Description: Datasheet; ComponentLink1URL: http://search.murata.co.jp/Ceramy/image/img/PDF/ENG/L0110S0101BLM18H.pdf; PackageReference: 0603 (1608 Metric)
footprint 0603L_High Current (SMD EMI Suppression Ferrite  Bead, body 1.6mmx0.8mm)
footprint 0603L_Wide Band (SMD EMI Suppression Ferrite  Bead, body 1.6mmx0.8mm)
pins: 1, 2

## DB2J31400L
designator D?
DIODE SCHOTTKY 30V 30MA SMINI2; Manufacturer: Panasonic; Manufacturer Part Number: DB2J31400L; Family: Rectifier; RS_Part_Number: 7159679; Digi-Key Part Number: DB2J31400LTR-ND; PackageReference: SC-90, SOD-323F
footprint SMINI2-F5-B
pins: 1, 2

## ESD-CAN01-2BLY
designator D?, comment ESDCAN01-2BLY
TVS DIODE 24VWM 40VC SOT23-5; Manufacturer: STMicroelectronics; Digi-Key Part Number: 497-15333-1-ND; Manufacturer Part Number: ESDCAN01-2BLY; Supplier 1: Digi-Key; Supplier 2: Farnell; Supplier Part Number 1: 497-15333-1-ND; Supplier Part Number 2: 2455736
footprint SOT23-ESDCAN01-2BLY (SOT23, 3-Leads, Body 2.90x2.55mm, Pitch 1.05mm, IPC Medium Density)
pins: 1, 2, 3

## ESD_CG0402MLE-140 0402
designator D?, comment CG0402MLE-18G  (value not drawn)
VARISTOR  18VC 0402; Manufacturer: Bourns Inc.; Manufacturer Part Number: CG0402MLE-18G; Value: Value; Digi-Key Part Number: CG0402MLE-18GCT-ND; PackageReference: 0402 (1005 Metric)
footprint CG0402MLE
pins: 1, 2

## ESD_LXES15AAA1-133 0402
designator D?, comment LXES15AAA1-133
TVS DIODE 15VWM 0402; Manufacturer: Murata Electronics North America; Manufacturer Part Number: LXES15AAA1-133; Family: Zener; Value: Value; Digi-Key Part Number: 490-13209-2-ND; Package / Case: 0402 (1005 Metric)
footprint PESD0402
pins: 1, 2

## FIDU-ROUND
designator FIDU?  (value not drawn)  (no BOM)
ClassName: FIDU
footprint FIDU-ROUND
text: FID

## FIDU-SQUARE
designator FIDU?  (value not drawn)  (no BOM)
Feducial marker Square; ClassName: FIDU
footprint FIDU-SQUARE

## HIROSE_A_U.FL
designator J?
U.FL, Ultra Miniature Coaxial Connector Receptacle, Male Pin 50 Ohm Surface Mount Solder; Manufacturer: Hirose Electric Co Ltd; Manufacturer Part Number: U.FL-R-SMT(10); Digi-Key Part Number: H9161TR-ND; Connector Style: U.FL, Ultra Miniature Coaxial
footprint HIROSE_A_U.FL
pins: GND1, GND2, RF

## JST_1.5MM_MALE_HORIZ
designator J?, comment Mates to a single-cell LiPo battery
JST-ZH Flat Horizontal; Manufacturer: JST Sales America Inc.; Manufacturer Part Number: S2B-ZR-SM4A-TF(LF)(SN); BTM_POS: +; PROD_ID: CONN-11443; BTM_NEG: -; TOP_NEG: -; TOP_POS: +; Digi-Key Part Number: 455-1693-1-ND; ClassName: 3D_EXPORT
footprint JST-1.5mm-ZH-2P (CONN HEADER ZH SIDE 2POS 1.5MM)
pins: 1 -, 2 +, 3 SH

## JST_2MM_MALE_HORIZ
designator J?, comment Mates to a single-cell LiPo battery
JST Flat Horizontal; Manufacturer: JST Sales America Inc.; Manufacturer Part Number: S2B-PH-K-S(LF)(SN); BTM_POS: +; PROD_ID: CONN-11443; BTM_NEG: -; TOP_NEG: -; TOP_POS: +; Digi-Key Part Number: 455-1719-ND
footprint JST-2-PTH-NS
pins: 1 -, 2 +

## JST_2MM_MALE_HORIZ-DNP
designator J?, comment Mates to a single-cell LiPo battery/DNP
JST Flat Horizontal; Manufacturer: JST Sales America Inc.; Manufacturer Part Number: S2B-PH-K-S(LF)(SN); BTM_POS: +; PROD_ID: CONN-11443; BTM_NEG: -; TOP_NEG: -; TOP_POS: +; Digi-Key Part Number: 455-1719-ND
footprint JST-2-PTH-NS - DNP
pins: 1 -, 2 +

## LED_ASMB-MTB1-0A3A2
designator D?, comment LED RGB
LED RGB DIFFUSED 4PLCC SMD; Manufacturer: Broadcom Limited; Manufacturer Part Number: ASMB-MTB1-0A3A2; Color: Red, Green, Blue (RGB); Voltage - Forward (Vf) (Typ): 2.1V Red, 3.1V Green, 3.1V Blue; Current - Test: 20mA Red, 20mA Green, 20mA Blue; Wavelength - Peak: 634nm Red, 522nm Green, 465nm Blue; Millicandela Rating: 540mcd Red, 1600mcd Green, 350mcd Blue; ComponentLink1Description: Datasheet; ComponentLink1URL: https://docs.broadcom.com/docs/AV02-4194EN; Digi-Key Part Number: 516-3280-2-ND
footprint LED_ASMB-MTB1 (Chip LED, 4-Leads, Body 2.8x3.5mm (max), Pitch 1.42mm, IPC Medium Density)
pins: 1 R, 2 G, 3 B, 4
text: +; Common; Anode

## LED_WL-SFCD_0606
designator D?, comment LED RGB
LED RGB DIFFUSED 4PLCC SMD; Manufacturer: Wurth Elektronik; Manufacturer Part Number: 150066M153000; Color: Red, Green, Blue (RGB); Voltage - Forward (Vf) (Typ): 2V Red, 3.3V Green, 3.4V Blue; Current - Test: 20mA Red, 20mA Green, 20mA Blue; Wavelength - Peak: 632nm Red, 520nm Green, 468nm Blue; Millicandela Rating: 285mcd Red, 900mcd Green, 180mcd Blue; ComponentLink1Description: Datasheet; ComponentLink1URL: http://katalog.we-online.com/led/datasheet/150066M153000.pdf
footprint WL-SFCX_0606
pins: 1 R, 2 G, 3 B, 4

## LED_WP710A10QBC/D
designator D?, comment BlueLED/DNP
LED BLUE CLEAR 3MM ROUND T/H; Manufacturer Part Number: WP710A10QBC/D; Manufacturer: Kingbright; Millicandela Rating: 1600mcd; Voltage(Vf): 3.3V; Current: 20mA; Digi-Key Part Number: 754-1596-ND; Mounting Type: Through Hole
footprint LED_Blue
pins: A, K

## NET_TIE
designator NT?  (value not drawn)  (net tie, no BOM)
NET_TIE; ClassName: NET_TIE
footprint NET_TIE
pins: 1 (power), 2 (power)
text: NT

## PESD0402-140 0402
designator D?, comment PESD0402-140  (value not drawn)
TVS DIODE 14VWM 40VC 0402; Manufacturer: Tyco Electronics /Littelfuse Inc.; Manufacturer Part Number: PESD0402-140; Family: TVS; RS_Part_Number: 7192294; Value: Value; Digi-Key Part Number: PESD0402-140CT-ND; Package / Case: 0402 (1005 Metric)
footprint PESD0402
pins: 1, 2

## PJ-018H-SMT-TR
designator J?, comment 5V wall
CONN PWR JACK 1.70mm ID (0.067"), 4.00mm OD (0.157") EIAJ-2 Surface Mount, Right Angle; Manufacturer Part Number: PJ-018H-SMT-TR; Manufacturer: CUI Inc.; ComponentLink2Description: Datasheet; ComponentLink2URL: http://www.cui.com/product/resource/digikeypdf/pj-018h-smt.pdf; Digi-Key Part Number: CP-018HPJTR-ND; ClassName: 3D_EXPORT
footprint PJ-018H-SMT-TR (CONN PWR JACK 1.7X4MM SOLDER)
pins: 1, 2, 3

## RZR040P01TL
designator Q?
P-Channel 12V 4A (Ta) 1W (Ta); Manufacturer: Rohm Semiconductor; Manufacturer Part Number: RZR040P01TL; Current - Continuous Drain (Id): 4A (Ta); Rds On (Max): 30 mOhm; Digi-Key Part Number: RZR040P01TLCT-ND; FET Type: P-Channel; PackageReference: SC-96
footprint SOT-346T-RZR040P01TL (SOTFL, 3-Leads, Body 2.90x2.80mm, Pitch 0.95mm, IPC Medium Density)
pins: 1 G, 2 S, 3 D

## SN74AVC4T774RSVR
designator U?, comment SN74AVC4T774
Voltage Level Translator Bidirectional 1 Circuit 4 Channel 380Mbps; Manufacturer: Texas Instruments; Manufacturer Part Number: SN74AVC4T774RSVR; PIN_COUNT: 16; GENERIC_PART_NUMBER: SN74AVC4T774; PackageReference: 16-UFQFN; ComponentLink1URL: http://www.ti.com/lit/gpn/SN74AVC4T774; ComponentLink1Description: Datasheet
footprint RSV16
pins: 1 A1 (io), 2 A2 (io), 3 A3 (io), 4 A4 (io), 5 DIR3 (in), 6 DIR4 (in), 7 *OE (in), 8 GND (power), 9 B4 (io), 10 B3 (io), 11 B2 (io), 12 B1 (io), 13 VCCB (power), 14 VCCA (power), 15 DIR1 (in), 16 DIR2 (in)

## SW_SPST_WS-TASV826
designator S?, comment 434113025826  (value not drawn)
SWITCH TACTILE SPST-NO 0.05A 12V; Manufacturer: Wurth Elektronik; Manufacturer Part Number: 434113025826; ComponentLink2Description: Datasheet; ComponentLink2URL: http://katalog.we-online.de/em/datasheet/4341x30258xx.pdf; Digi-Key Part Number: 732-7042-1-ND; ClassName: 3D_EXPORT
footprint 4341x30258xx (SWITCH TACTILE SPST-NO 0.05A 12V  J-Bend SMD, height 2.5mm, white actuator, 260gf, T&R)
pins: 1, 2

## TP_C_R0402
designator TP?, comment 0402/DNP  (no BOM)
Test point for low Current 0402; ClassName: TP
footprint TESTPOINT_C_R0402 (Testpoint current)
pins: 1 (power), 2 (power)

## TP_C_R0603
designator TP?, comment 0603/DNP  (no BOM)
Test point for Med Current 0402 JUMPER SMD O OHM 1% 1/4W 0603; ClassName: TP
footprint TESTPOINT_C_R0608 (Testpoint current)
pins: 1 (power), 2 (power)

## TP_V_HOOK
designator TP?
Black PC Test Point; Manufacturer: Keystone Electronics; Manufacturer Part Number: 5001; Digi-Key Part Number: 36-5001-ND
footprint Testpoint_Hook (Testpoints)
pins: 1 8

## TP_V_HOOK/DNP
designator TP?, comment DNP
DNP / NU; Manufacturer: Keystone Electronics; Manufacturer Part Number: 5001; Digi-Key Part Number: 36-5001-ND
footprint Testpoint_Hook-DNP (Testpoints)
pins: 1 8

## TP_V_TOP_SIDE
designator TP?  (no BOM)
Test Point top side; ClassName: TP
footprint Testpoint_TOP_DOT (Testpoints)
pins: 1 8

## TP_V_VIA
designator TP?  (no BOM)
Test Point top side; ClassName: TP
footprint Testpoint_VIA (Testpoints)
pins: 1 8

## UX60SC-MB-5S8
designator J?
CONN RCPT USB-mini B 2.0 5POS SLD; Manufacturer: Hirose Electric Co Ltd; ComponentLink1Description: Datasheet; ComponentLink1URL: http://media.digikey.com/pdf/Data%20Sheets/Hirose%20PDFs/UX60S.pdf; Manufacturer Part Number: UX60SC-MB-5S8; Digi-Key Part Number: H11589CT-ND; Connector Type: USB - mini B; ClassName: 3D_EXPORT
footprint USB-UX60SC-MB-5S8 (CONN RCPT USB MINI B 5 pins)
pins: 1 VCC, 2 D-, 3 D+, 4 ID, 5 GND, Shell
text: Mini-USB 2.0 Type B

## WS-TASV, 431153008826
designator S?, comment 431153008826
WS-TASV 5x5 mm J-Bend SMD with ground terminal; Manufacturer: Wurth Elektronik; Manufacturer Part Number: 431153008826; ComponentLink2Description: Datasheet; ComponentLink2URL: http://katalog.we-online.de/em/datasheet/4311x30088x6.pdf
footprint SW_4311x30088x6 (5*5mm vertical type,J-Bend SMD,  height 0.8mm, no actuator, 260gf, Grounded Terminal, T&R)
pins: 1, 2, 3, 4, 5 GND, 6 GND